# EAGLE library part B3W-9000 (library PP_Electromechanical)
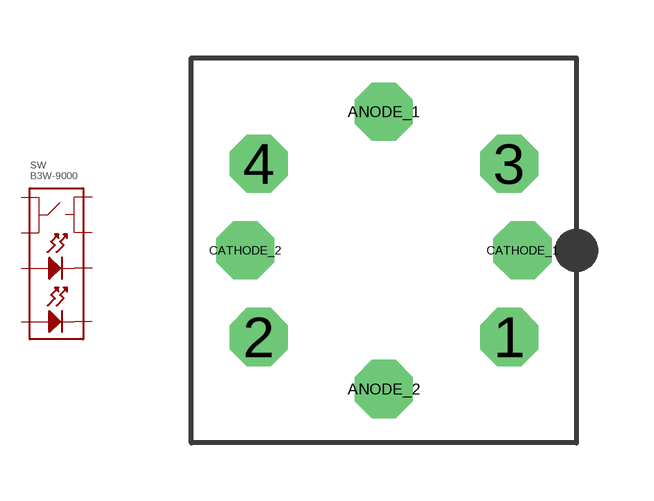
[diagram p4: symbol with the pads of B3W-9000; footprint B3W-9000]

Designator prefix SW

## B3W-9000  [B3W-9000]
1  1
2  2
3  3
4  4
ANODE_1  ANODE_1
ANODE_2  ANODE_2
CATHODE_1  CATHODE_1
CATHODE_2  CATHODE_2

## Footprint B3W-9000 (pad centres in mm)
drill 1 octagon: 1 3.25,-2.25; 2 -3.25,-2.25; 3 3.25,2.25; 4 -3.25,2.25; ANODE_1 0,3.6; ANODE_2 0,-3.6; CATHODE_1 3.6,0; CATHODE_2 -3.6,0